# EAGLE library part LT1682 (library work)
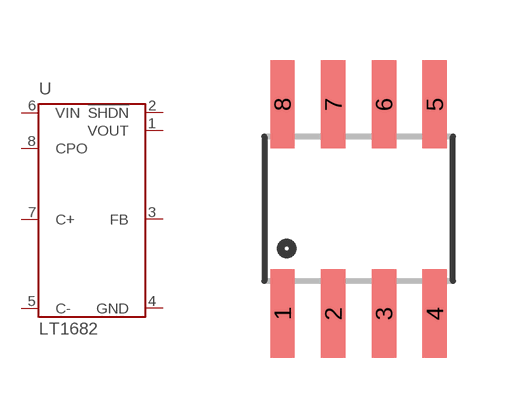
[diagram p50: symbol with the pads of SOIC-8; footprint SOIC-8]

Designator prefix U

## LT1682  [SOIC-8]
1  VOUT
2  !SHDN
3  FB
4  GND
5  C-
6  VIN
7  C+
8  CPO

## Footprint SOIC-8 (pad centres in mm)
smd 0.61 x 2.21: 1 -1.905,-2.616; 2 -0.635,-2.616; 3 0.635,-2.616; 4 1.905,-2.616; 5 1.905,2.616; 6 0.635,2.616; 7 -0.635,2.616; 8 -1.905,2.616